# EAGLE library part NCV7430D20R2G (library Driver_Transceiver ICs)
IC DRIVER 1/0 14SOIC Manufacturer's datasheet <https://www.onsemi.com/pub/Collateral/NCV7430-D.PDF>
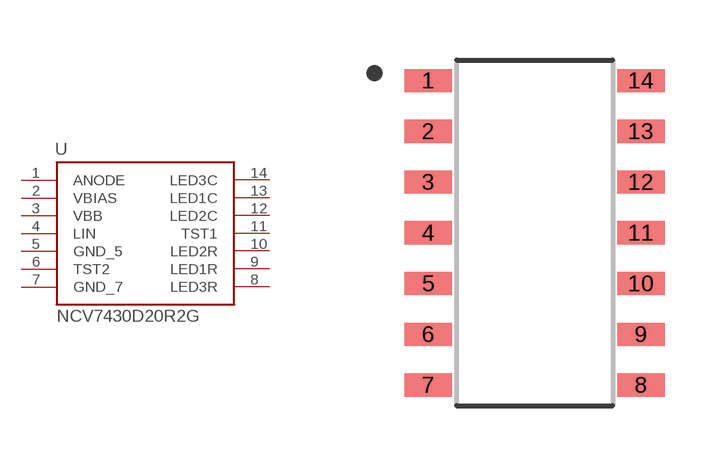
[diagram p2: symbol with the pads of SOIC-14; footprint SOIC-14]

Designator prefix U

## NCV7430D20R2G (CREATED_BY: PCBLayout.com; DIGIKEY_PN: NCV7430D20R2GOSTR-ND; MANUFACTURER: ON Semiconductor; MPN: NCV7430D20R2G; PACKAGE: SOIC-14)  [SOIC-14]
1  ANODE  in
2  VBIAS  out
3  VBB  pwr
4  LIN  in
5  GND_5  pwr
6  TST2  pwr
7  GND_7  pwr
8  LED3R  pas
9  LED1R  pas
10  LED2R  pas
11  TST1  pwr
12  LED2C  out
13  LED1C  out
14  LED3C  out

## Footprint SOIC-14 (pad centres in mm)
smd 1.18 x 0.58: 1 -2.66,3.81; 2 -2.66,2.54; 3 -2.66,1.27; 4 -2.66,0; 5 -2.66,-1.27; 6 -2.66,-2.54; 7 -2.66,-3.81; 8 2.66,-3.81; 9 2.66,-2.54; 10 2.66,-1.27; 11 2.66,0; 12 2.66,1.27; 13 2.66,2.54; 14 2.66,3.81